# Altium integrated library LM324DR.IntLib: 1 symbol
Pins are listed as number, name and electrical type; pins without a type are passive.

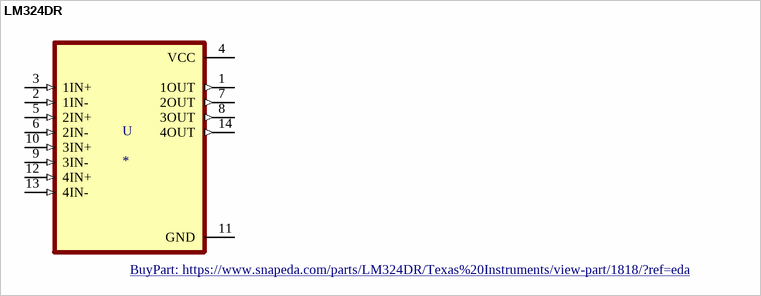
[diagram p0: symbol LM324DR]

## LM324DR
designator U
4-Channel industry standard operational amplifier 14-SOIC 0 to 70; MP: LM324DR; MF: Texas Instruments; SnapEDA_Link: https://www.snapeda.com/parts/LM324DR/Texas%20Instruments/view-part/1818/?ref=snap; Arrow_Electronics-Purchase-URL: https://snapeda.com/shop?store=Arrow+Electronics&id=1818; Value: *; Availability: Good; Texas_Instruments-Purchase-URL: https://snapeda.com/shop?store=Texas+Instruments&id=1818; DigiKey-Purchase-URL: https://snapeda.com/shop?store=DigiKey&id=1818; Package: SOIC-14 Texas Instruments; Mouser-Purchase-URL: https://snapeda.com/shop?store=Mouser&id=1818; Price: None; BuyPart: https://www.snapeda.com/parts/LM324DR/Texas%20Instruments/view-part/1818/?ref=eda
footprint SOIC127P600X175-14N
pins: 1 1OUT (out), 2 1IN- (in), 3 1IN+ (in), 4 VCC (power), 5 2IN+ (in), 6 2IN- (in), 7 2OUT (out), 8 3OUT (out), 9 3IN- (in), 10 3IN+ (in), 11 GND (power), 12 4IN+ (in), 13 4IN- (in), 14 4OUT (out)